# EAGLE library part WE-D-SUB_SMD90_242617113 (library WE-D-SUB)
WE-D-SUB Filter Bent 90° SMT Characteristics Standard type filtered with 1000 pF High attenuation of more than 40 dB @ 180 MHz Low size: 6.3 mm Rated voltage: 125 VDC Rated current @ 20 ºC: 5 A Withstand voltage: 250 VRMS Insulation resistance: min. 1000 MΩ Operating temperature: –55 ºC to +125 ºC Applications Filtering of interfaces External connection to -printer -sensor -display <https://katalog.we-online.de/media/images/v2/o14706v209%20Family_240117113_240617113.jpg> Details see: https://katalog.we-online.de/en/pbs/D-SUB-FILTER-BENT90-SMD Updated by Ella Wu 2019-09-10 2019(C) Wurth Elektronik
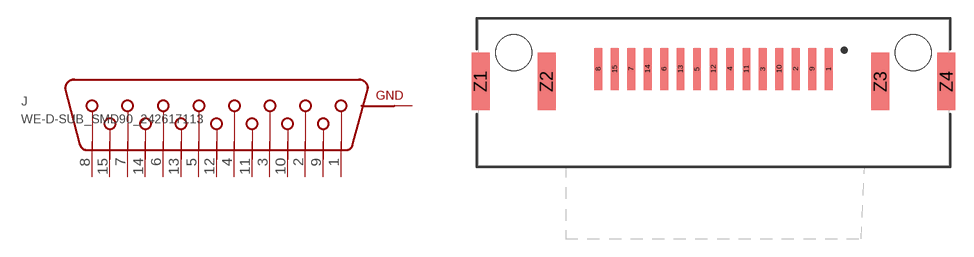
[diagram p12: symbol with the pads of WE-D-SUB_SMD90_242617113; footprint WE-D-SUB_SMD90_242617113]

Designator prefix J

## WE-D-SUB_SMD90_242617113 (DATASHEET-URL: https://katalog.we-online.de/pbs/datasheet/242617113.pdf; MOUNT: SMT; PART-NUMBER: 242617113; POLES: 15; TYPE: Female)  [WE-D-SUB_SMD90_242617113]
1  8  pas
2  7  pas
3  6  pas
4  5  pas
5  4  pas
6  3  pas
7  2  pas
8  1  pas
9  15  pas
10  14  pas
11  13  pas
12  12  pas
13  11  pas
14  10  pas
15  9  pas
Z1  GND  pas
Z2  GND  pas
Z3  GND  pas
Z4  GND  pas

## Footprint WE-D-SUB_SMD90_242617113 (pad centres in mm)
WE-D-SUB Filter Bent 90° SMT 15 Poles , Female
smd 0.65 x 3.5: 1 9.59,-1.35; 2 6.85,-1.35; 3 4.11,-1.35; 4 1.37,-1.35; 5 -1.37,-1.35; 6 -4.11,-1.35; 7 -6.85,-1.35; 8 -9.59,-1.35; 9 8.22,-1.35; 10 5.48,-1.35; 11 2.74,-1.35; 12 0,-1.35; 13 -2.74,-1.35; 14 -5.48,-1.35; 15 -8.22,-1.35
smd 1.5 x 4.8: Z1 -19.4,-2.4; Z2 -13.9,-2.4; Z3 13.9,-2.4; Z4 19.4,-2.4
hole 3 at -16.65,0
hole 3 at 16.65,0